# Altium footprint library CN_SAMTEC_ TSM-104-x-x-DV.PcbLib: 3 footprints
Each footprint in its own frame and in the unit in brackets; x right, y up, seen from the top. Pads: shape width x height; smd on the part's side, far side on the other; paste and mask are expansions set on the pad; w line width, h text height; cw(c..) or ccw(c..) is an arc to the next point about the centre after c.
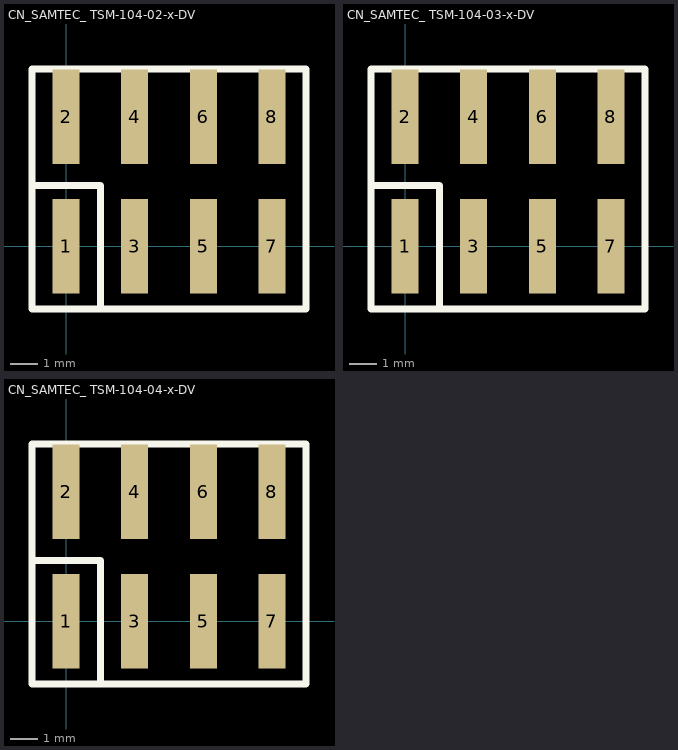
[diagram p0: the footprints below, top view; thin cyan lines are the x and y axes]

## CN_SAMTEC_ TSM-104-02-x-DV [mm]
pads (8):
  rect 1x3.5 smd: 1(0,0) 2(0,4.8) 3(2.54,0) 4(2.54,4.8) 5(5.08,0) 6(5.08,4.8) 7(7.62,0) 8(7.62,4.8)
Top Overlay:
  lines w0.254: -1.27,2.26 1.27,2.26 1.27,-2.32 ; -1.27,-2.32 8.89,-2.32 8.89,6.57 -1.27,6.57 -1.27,-2.32
3D body: height 11.94, standoff 0, extent -1.27,-1.27 8.89,6.096

## CN_SAMTEC_ TSM-104-03-x-DV [mm]
pads (8):
  rect 1x3.5 smd: 1(0,0) 2(0,4.8) 3(2.54,0) 4(2.54,4.8) 5(5.08,0) 6(5.08,4.8) 7(7.62,0) 8(7.62,4.8)
Top Overlay:
  lines w0.254: -1.27,2.26 1.27,2.26 1.27,-2.32 ; -1.27,-2.32 -1.27,6.57 8.89,6.57 8.89,-2.32 -1.27,-2.32
3D body: height 14.48, standoff 0, extent -1.27,-1.27 8.89,6.096

## CN_SAMTEC_ TSM-104-04-x-DV [mm]
pads (8):
  rect 1x3.5 smd: 1(0,0) 2(0,4.8) 3(2.54,0) 4(2.54,4.8) 5(5.08,0) 6(5.08,4.8) 7(7.62,0) 8(7.62,4.8)
Top Overlay:
  lines w0.254: -1.27,2.26 1.27,2.26 1.27,-2.32 ; -1.27,-2.32 -1.27,6.57 8.89,6.57 8.89,-2.32 -1.27,-2.32
3D body: height 6.86, standoff 0, extent -1.27,-1.304 8.89,6.062